# Altium footprint library Tracker_SoM.PcbLib: 1 footprints
Each footprint in its own frame and in the unit in brackets; x right, y up, seen from the top. Pads: shape width x height; smd on the part's side, far side on the other; paste and mask are expansions set on the pad; w line width, h text height; cw(c..) or ccw(c..) is an arc to the next point about the centre after c.
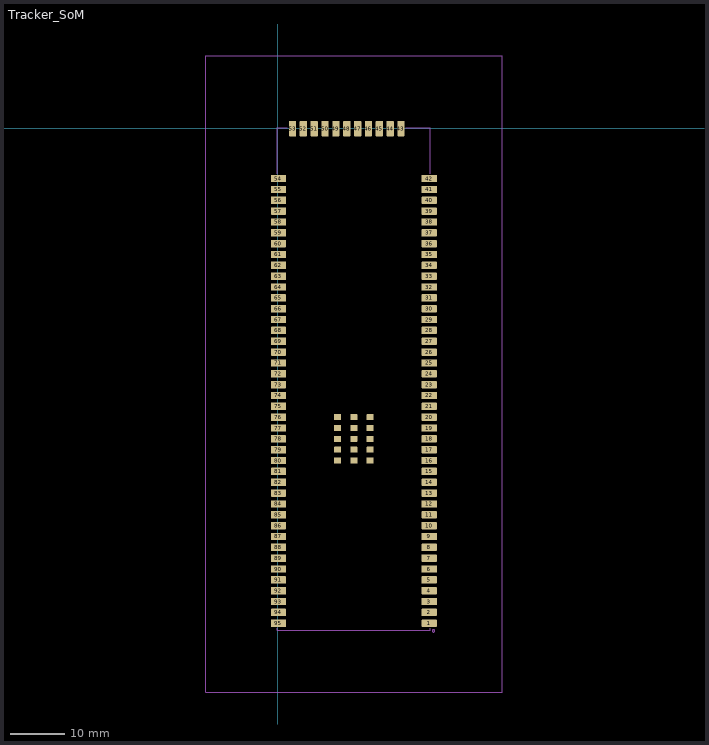
[diagram p0: the footprint, top view; thin cyan lines are the x and y axes]

## Tracker_SoM [mm]
pads (110):
  rrect15% 2.8x1.35 smd: 1(27.9,-91.3) 2(27.9,-89.3) 3(27.9,-87.3) 4(27.9,-85.3) 5(27.9,-83.3) 6(27.9,-81.3) 7(27.9,-79.3) 8(27.9,-77.3) 9(27.9,-75.3) 10(27.9,-73.3) 11(27.9,-71.3) 12(27.9,-69.3) 13(27.9,-67.3) 14(27.9,-65.3) 15(27.9,-63.3) 16(27.9,-61.3) 17(27.9,-59.3) 18(27.9,-57.3) 19(27.9,-55.3) 20(27.9,-53.3) 21(27.9,-51.3) 22(27.9,-49.3) 23(27.9,-47.3) 24(27.9,-45.3) 25(27.9,-43.3) 26(27.9,-41.3) 27(27.9,-39.3) 28(27.9,-37.3) 29(27.9,-35.3) 30(27.9,-33.3) 31(27.9,-31.3) 32(27.9,-29.3) 33(27.9,-27.3) 34(27.9,-25.3) 35(27.9,-23.3) 36(27.9,-21.3) 37(27.9,-19.3) 38(27.9,-17.3) 39(27.9,-15.3) 40(27.9,-13.3) 41(27.9,-11.3) 42(27.9,-9.3) 54(0.1,-9.3) 55(0.1,-11.3) 56(0.1,-13.3) 57(0.1,-15.3) 58(0.1,-17.3) 59(0.1,-19.3) 60(0.1,-21.3) 61(0.1,-23.3) 62(0.1,-25.3) 63(0.1,-27.3) 64(0.1,-29.3) 65(0.1,-31.3) 66(0.1,-33.3) 67(0.1,-35.3) 68(0.1,-37.3) 69(0.1,-39.3) 70(0.1,-41.3) 71(0.1,-43.3) 72(0.1,-45.3) 73(0.1,-47.3) 74(0.1,-49.3) 75(0.1,-51.3) 76(0.1,-53.3) 77(0.1,-55.3) 78(0.1,-57.3) 79(0.1,-59.3) 80(0.1,-61.3) 81(0.1,-63.3) 82(0.1,-65.3) 83(0.1,-67.3) 84(0.1,-69.3) 85(0.1,-71.3) 86(0.1,-73.3) 87(0.1,-75.3) 88(0.1,-77.3) 89(0.1,-79.3) 90(0.1,-81.3) 91(0.1,-83.3) 92(0.1,-85.3) 93(0.1,-87.3) 94(0.1,-89.3) 95(0.1,-91.3)
  rrect15% 1.35x2.8 smd: 43(22.7,-0.1) 44(20.7,-0.1) 45(18.7,-0.1) 46(16.7,-0.1) 47(14.7,-0.1) 48(12.7,-0.1) 49(10.7,-0.1) 50(8.7,-0.1) 51(6.7,-0.1) 52(4.7,-0.1) 53(2.7,-0.1)
  rrect15% 1.3x1.1 smd paste-2.54: 96(17,-61.3) 97(17,-59.3) 98(17,-57.3) 99(17,-55.3) 100(17,-53.3) 101(11,-55.3) 102(11,-57.3) 103(11,-59.3) 104(11,-61.3) 105(11,-53.3) 106(14,-53.3) 107(14,-55.3) 108(14,-57.3) 109(14,-59.3) 110(14,-61.3)
Mechanical 1:
  lines w0.1: -13.335,-104.013 -13.335,13.335 41.402,13.335 41.402,-104.013 -13.335,-104.013
  text "Suggested keep out for components" at -13.312,13.818 h1
Mechanical 3:
  text "DO NOT CONNECT" at 13.97,-57.15 h0.94
  text "TEST PADS" at 13.97,-56.236 h0.94
Mechanical 7:
  circle w0.127: c28.7,-92.7 r0.224
  lines w0.127: -0.1,-92.2 -0.1,-92.6 28.1,-92.6 28.1,-92.2 ; -0.1,-8.4 -0.1,0.1 1.7,0.1 ; 23.6,0.1 28.1,0.1 28.1,-8.4
3D body "T-SoM.step": height 3.73, standoff 0, extent -0.03,-92.456 27.97,0.044